# Altium footprint library MURS120T3.PcbLib: 1 footprints
Each footprint in its own frame and in the unit in brackets; x right, y up, seen from the top. Pads: shape width x height; smd on the part's side, far side on the other; paste and mask are expansions set on the pad; w line width, h text height; cw(c..) or ccw(c..) is an arc to the next point about the centre after c.
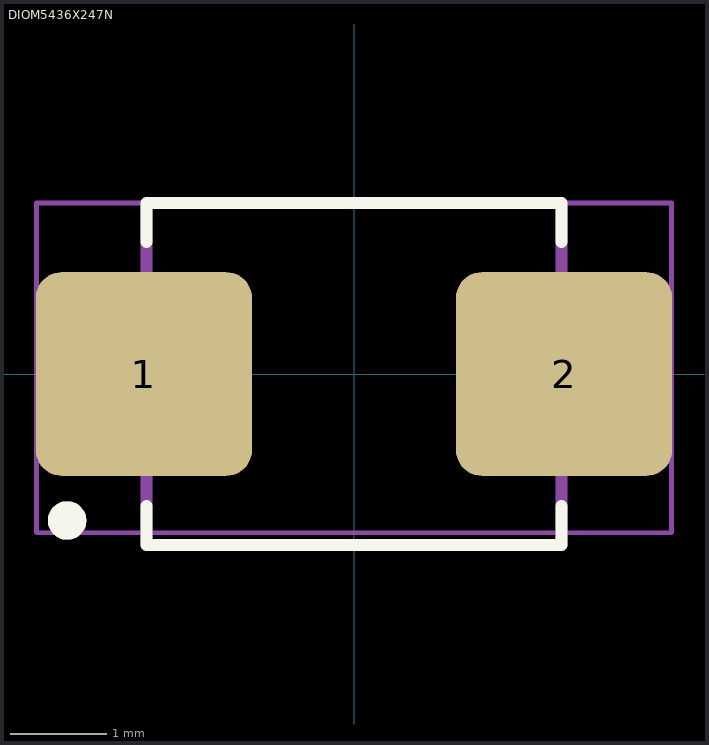
[diagram p0: the footprint, top view; thin cyan lines are the x and y axes]

## DIOM5436X247N [mm]
pads (2):
  rrect25% 2.25x2.12 smd: 1(-2.185,0) 2(2.185,0)
Top Overlay:
  circle w0.2: c-2.984,-1.524 r0.1
  lines w0.127: -2.16,-1.374 -2.16,-1.78 2.16,-1.78 2.16,-1.374 ; -2.16,1.374 -2.16,1.78 2.16,1.78 2.16,1.374
Mechanical 13:
  circle w0.2: c-2.984,-1.524 r0.1
  lines w0.127: -2.16,-1.78 2.16,-1.78 2.16,1.78 -2.16,1.78 -2.16,-1.78
Mechanical 15:
  lines w0.05: -3.302,-1.651 -3.302,1.778 3.302,1.778 3.302,-1.651 -3.302,-1.651
3D body "MURS120T3.STEP": height 2.49, standoff 0.02, extent -2.593,-1.653 2.847,1.907